# Altium footprint library DART-SD410.PcbLib: 2 footprints
Each footprint in its own frame and in the unit in brackets; x right, y up, seen from the top. Pads: shape width x height; smd on the part's side, far side on the other; paste and mask are expansions set on the pad; w line width, h text height; cw(c..) or ccw(c..) is an arc to the next point about the centre after c.
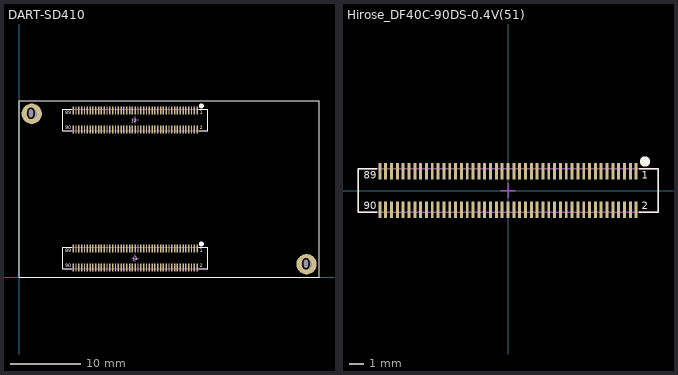
[diagram p0: the footprints below, top view; thin cyan lines are the x and y axes]

## DART-SD410 [mm] "Variscite DART-SD410 SoM"
height 2.7
pads (182):
  round 2.896 hole 1.499: 0(1.81,23.19) 0(40.83,1.83)
  rect 0.2x1.14 smd: 1(25.3,4.02) 2(25.3,1.38) 3(24.9,4.02) 4(24.9,1.38) 5(24.5,4.02) 6(24.5,1.38) 7(24.1,4.02) 8(24.1,1.38) 9(23.7,4.02) 10(23.7,1.38) 11(23.3,4.02) 12(23.3,1.38) 13(22.9,4.02) 14(22.9,1.38) 15(22.5,4.02) 16(22.5,1.38) 17(22.1,4.02) 18(22.1,1.38) 19(21.7,4.02) 20(21.7,1.38) 21(21.3,4.02) 22(21.3,1.38) 23(20.9,4.02) 24(20.9,1.38) 25(20.5,4.02) 26(20.5,1.38) 27(20.1,4.02) 28(20.1,1.38) 29(19.7,4.02) 30(19.7,1.38) 31(19.3,4.02) 32(19.3,1.38) 33(18.9,4.02) 34(18.9,1.38) 35(18.5,4.02) 36(18.5,1.38) 37(18.1,4.02) 38(18.1,1.38) 39(17.7,4.02) 40(17.7,1.38) 41(17.3,4.02) 42(17.3,1.38) 43(16.9,4.02) 44(16.9,1.38) 45(16.5,4.02) 46(16.5,1.38) 47(16.1,4.02) 48(16.1,1.38) 49(15.7,4.02) 50(15.7,1.38) 51(15.3,4.02) 52(15.3,1.38) 53(14.9,4.02) 54(14.9,1.38) 55(14.5,4.02) 56(14.5,1.38) 57(14.1,4.02) 58(14.1,1.38) 59(13.7,4.02) 60(13.7,1.38) 61(13.3,4.02) 62(13.3,1.38) 63(12.9,4.02) 64(12.9,1.38) 65(12.5,4.02) 66(12.5,1.38) 67(12.1,4.02) 68(12.1,1.38) 69(11.7,4.02) 70(11.7,1.38) 71(11.3,4.02) 72(11.3,1.38) 73(10.9,4.02) 74(10.9,1.38) 75(10.5,4.02) 76(10.5,1.38) 77(10.1,4.02) 78(10.1,1.38) 79(9.7,4.02) 80(9.7,1.38) 81(9.3,4.02) 82(9.3,1.38) 83(8.9,4.02) 84(8.9,1.38) 85(8.5,4.02) 86(8.5,1.38) 87(8.1,4.02) 88(8.1,1.38) 89(7.7,4.02) 90(7.7,1.38) 101(25.3,23.62) 102(25.3,20.98) 103(24.9,23.62) 104(24.9,20.98) 105(24.5,23.62) 106(24.5,20.98) 107(24.1,23.62) 108(24.1,20.98) 109(23.7,23.62) 110(23.7,20.98) 111(23.3,23.62) 112(23.3,20.98) 113(22.9,23.62) 114(22.9,20.98) 115(22.5,23.62) 116(22.5,20.98) 117(22.1,23.62) 118(22.1,20.98) 119(21.7,23.62) 120(21.7,20.98) 121(21.3,23.62) 122(21.3,20.98) 123(20.9,23.62) 124(20.9,20.98) 125(20.5,23.62) 126(20.5,20.98) 127(20.1,23.62) 128(20.1,20.98) 129(19.7,23.62) 130(19.7,20.98) 131(19.3,23.62) 132(19.3,20.98) 133(18.9,23.62) 134(18.9,20.98) 135(18.5,23.62) 136(18.5,20.98) 137(18.1,23.62) 138(18.1,20.98) 139(17.7,23.62) 140(17.7,20.98) 141(17.3,23.62) 142(17.3,20.98) 143(16.9,23.62) 144(16.9,20.98) 145(16.5,23.62) 146(16.5,20.98) 147(16.1,23.62) 148(16.1,20.98) 149(15.7,23.62) 150(15.7,20.98) 151(15.3,23.62) 152(15.3,20.98) 153(14.9,23.62) 154(14.9,20.98) 155(14.5,23.62) 156(14.5,20.98) 157(14.1,23.62) 158(14.1,20.98) 159(13.7,23.62) 160(13.7,20.98) 161(13.3,23.62) 162(13.3,20.98) 163(12.9,23.62) 164(12.9,20.98) 165(12.5,23.62) 166(12.5,20.98) 167(12.1,23.62) 168(12.1,20.98) 169(11.7,23.62) 170(11.7,20.98) 171(11.3,23.62) 172(11.3,20.98) 173(10.9,23.62) 174(10.9,20.98) 175(10.5,23.62) 176(10.5,20.98) 177(10.1,23.62) 178(10.1,20.98) 179(9.7,23.62) 180(9.7,20.98) 181(9.3,23.62) 182(9.3,20.98) 183(8.9,23.62) 184(8.9,20.98) 185(8.5,23.62) 186(8.5,20.98) 187(8.1,23.62) 188(8.1,20.98) 189(7.7,23.62) 190(7.7,20.98)
Top Overlay:
  circle w0.5: c25.9,24.3 r0.1
  circle w0.5: c25.9,4.7 r0.1
  lines w0.1: 7.5,1.2 6.2,1.2 6.2,4.2 7.5,4.2 ; 7.5,20.8 6.2,20.8 6.2,23.8 7.5,23.8 ; 25.5,1.2 26.8,1.2 26.8,4.2 25.5,4.2 ; 25.5,20.8 26.8,20.8 26.8,23.8 25.5,23.8 ; 0,0 42.6,0 42.6,25 0,25 0,0
  text "J2" at 16.1,22 h0.51
  text "1" at 25.7,23.1 h0.51
  text "2" at 25.7,21 h0.51
  text "89" at 6.6,23.1 h0.51
  text "90" at 6.6,21 h0.51
  text "90" at 6.6,1.4 h0.51
  text "89" at 6.6,3.5 h0.51
  text "2" at 25.7,1.4 h0.51
  text "1" at 25.7,3.5 h0.51
  text "J1" at 16.2,2.4 h0.51
Mechanical 15:
  lines w0.1: 16,2.7 17,2.7 ; 16,22.3 17,22.3 ; 16.5,2.2 16.5,3.2 ; 16.5,21.8 16.5,22.8 ; 6.2,1.2 6.2,4.2 26.8,4.2 26.8,1.2 6.2,1.2 ; 6.2,20.8 26.8,20.8 26.8,23.8 6.2,23.8 6.2,20.8
3D body: height 0.3, standoff 0.02, extent 6.2,20.8 26.8,23.8
3D body: height 1.45, standoff 0.02, extent 6.2,20.8 26.8,23.8
3D body: height 1, standoff 0.02, extent 7.3,21.8 25.7,22.8
3D body "DART-SD410_REV_1_0-FINAL.SLDPRT": height 4.2, standoff 0.3, extent 0,0 42.634,25.004
3D body: height 1, standoff 0.02, extent 7.3,2.2 25.7,3.2
3D body: height 1.45, standoff 0.02, extent 6.2,1.2 26.8,4.2
3D body: height 0.3, standoff 0.02, extent 6.2,1.2 26.8,4.2

## Hirose_DF40C-90DS-0.4V(51) [mm] "Hirose DF40C-90DS-0.4V(51) Board-to-Board Connector"
height 1.45
pads (90):
  rect 0.2x1.14 smd: 1(8.8,1.32) 2(8.8,-1.32) 3(8.4,1.32) 4(8.4,-1.32) 5(8,1.32) 6(8,-1.32) 7(7.6,1.32) 8(7.6,-1.32) 9(7.2,1.32) 10(7.2,-1.32) 11(6.8,1.32) 12(6.8,-1.32) 13(6.4,1.32) 14(6.4,-1.32) 15(6,1.32) 16(6,-1.32) 17(5.6,1.32) 18(5.6,-1.32) 19(5.2,1.32) 20(5.2,-1.32) 21(4.8,1.32) 22(4.8,-1.32) 23(4.4,1.32) 24(4.4,-1.32) 25(4,1.32) 26(4,-1.32) 27(3.6,1.32) 28(3.6,-1.32) 29(3.2,1.32) 30(3.2,-1.32) 31(2.8,1.32) 32(2.8,-1.32) 33(2.4,1.32) 34(2.4,-1.32) 35(2,1.32) 36(2,-1.32) 37(1.6,1.32) 38(1.6,-1.32) 39(1.2,1.32) 40(1.2,-1.32) 41(0.8,1.32) 42(0.8,-1.32) 43(0.4,1.32) 44(0.4,-1.32) 45(0,1.32) 46(0,-1.32) 47(-0.4,1.32) 48(-0.4,-1.32) 49(-0.8,1.32) 50(-0.8,-1.32) 51(-1.2,1.32) 52(-1.2,-1.32) 53(-1.6,1.32) 54(-1.6,-1.32) 55(-2,1.32) 56(-2,-1.32) 57(-2.4,1.32) 58(-2.4,-1.32) 59(-2.8,1.32) 60(-2.8,-1.32) 61(-3.2,1.32) 62(-3.2,-1.32) 63(-3.6,1.32) 64(-3.6,-1.32) 65(-4,1.32) 66(-4,-1.32) 67(-4.4,1.32) 68(-4.4,-1.32) 69(-4.8,1.32) 70(-4.8,-1.32) 71(-5.2,1.32) 72(-5.2,-1.32) 73(-5.6,1.32) 74(-5.6,-1.32) 75(-6,1.32) 76(-6,-1.32) 77(-6.4,1.32) 78(-6.4,-1.32) 79(-6.8,1.32) 80(-6.8,-1.32) 81(-7.2,1.32) 82(-7.2,-1.32) 83(-7.6,1.32) 84(-7.6,-1.32) 85(-8,1.32) 86(-8,-1.32) 87(-8.4,1.32) 88(-8.4,-1.32) 89(-8.8,1.32) 90(-8.8,-1.32)
Top Overlay:
  circle w0.5: c9.4,2 r0.1
  lines w0.1: -9,-1.5 -10.3,-1.5 -10.3,1.5 -9,1.5 ; 9,-1.5 10.3,-1.5 10.3,1.5 9,1.5
  text "90" at -9.9,-1.3 h0.51
  text "89" at -9.9,0.8 h0.51
  text "2" at 9.2,-1.3 h0.51
  text "1" at 9.2,0.8 h0.51
Mechanical 15:
  lines w0.1: -0.5,0 0.5,0 ; 0,-0.5 0,0.5 ; -10.3,-1.5 -10.3,1.5 10.3,1.5 10.3,-1.5 -10.3,-1.5
3D body: height 1, standoff 0.02, extent -9.2,-0.5 9.2,0.5
3D body: height 1.45, standoff 0.02, extent -10.3,-1.5 10.3,1.5
3D body: height 0.3, standoff 0.02, extent -10.3,-1.5 10.3,1.5